# Altium schematic symbol library LTC3539EDCBTRMPBF.SchLib: 1 symbol
Pins are listed as number, name and electrical type; pins without a type are passive.

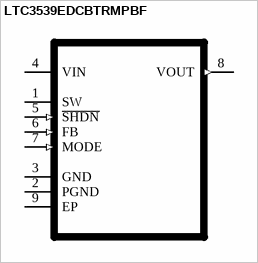
[diagram p0: symbol LTC3539EDCBTRMPBF]

## LTC3539EDCBTRMPBF
designator U?  (value not drawn)
Value: *
footprint DFN200X300X80-9N
pins: 1 SW, 2 PGND, 3 GND, 4 VIN (power), 5 ~{SHDN} (in), 6 FB (in), 7 MODE (in), 8 VOUT (out), 9 EP